# EAGLE library part BS138PS (library devkit)
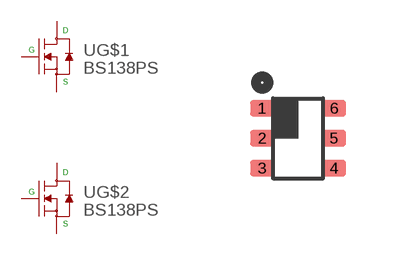
[diagram p0: symbol with the pads of SOT-363; footprint SOT-363]

Designator prefix U; gates G$1=MOSFET-N G$2=MOSFET-N

## BS138PS  [SOT-363]
1  G$1:S  pas
2  G$1:G  pas
3  G$2:D  pas
4  G$2:S  pas
5  G$2:G  pas
6  G$1:D  pas

## Footprint SOT-363 (pad centres in mm)
smd 0.6 x 0.4: 1 -0.9,0.75; 2 -0.9,0; 3 -0.9,-0.75; 4 0.9,-0.75; 5 0.9,0; 6 0.9,0.75